# EAGLE library part PINHD2X05 (library lib_stankus)
Pin header 2x05
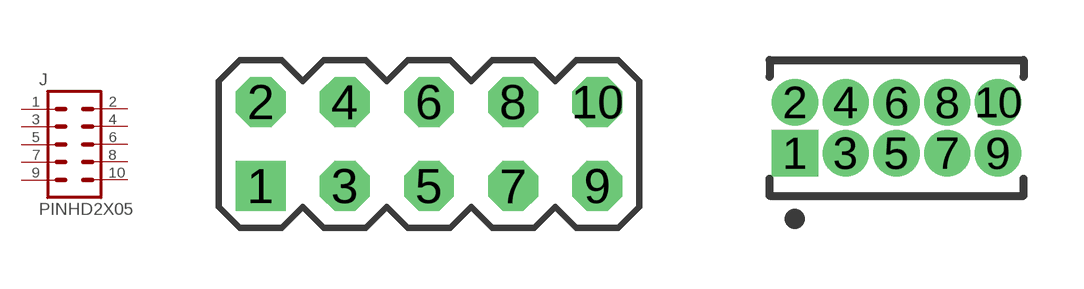
[diagram p73: symbol with the pads of PINHD2X05; footprints PINHD2X05, PINHD2X05_127]

Designator prefix J

## PINHD2X05-STRT  [PINHD2X05]
1  1  pas
2  2  pas
3  3  pas
4  4  pas
5  5  pas
6  6  pas
7  7  pas
8  8  pas
9  9  pas
10  10  pas

## PINHD2X05-STRT_127  [PINHD2X05_127]
Pads as for PINHD2X05

## Footprint PINHD2X05 (pad centres in mm)
PIN HEADER 2x05
drill 1 square: 1 -5.08,-1.27
drill 1 octagon: 2 -5.08,1.27; 3 -2.54,-1.27; 4 -2.54,1.27; 5 0,-1.27; 6 0,1.27; 7 2.54,-1.27; 8 2.54,1.27; 9 5.08,-1.27; 10 5.08,1.27

## Footprint PINHD2X05_127 (pad centres in mm)
PIN HEADER 2x05, 1.27 MM
drill 0.65 pad 1 square: 1 -2.54,-0.635
drill 0.65 pad 1 round: 2 -2.54,0.635; 3 -1.27,-0.635; 4 -1.27,0.635; 5 0,-0.635; 6 0,0.635; 7 1.27,-0.635; 8 1.27,0.635; 9 2.54,-0.635; 10 2.54,0.635